# EAGLE library part MUX_FSUSB42MUX (library !GPLIB_ACTIVE)
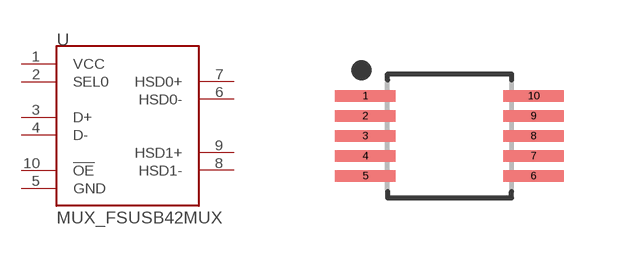
[diagram p120: symbol with the pads of FSUSB42MUX; footprint FSUSB42MUX]

Designator prefix U

## MUX_FSUSB42MUX  [FSUSB42MUX]
1  VCC  pwr
2  SEL0  in
3  D+
4  D-
5  GND  pwr
6  HSD0-
7  HSD0+
8  HSD1-
9  HSD1+
10  !OE  in

## Footprint FSUSB42MUX (pad centres in mm)
10-SOP, 0.50 mm pitch, 4.90 mm span, 3.00 X 3.00 X 1.00 mm body 10-pin SOP package with 0.50 mm pitch, 4.90 mm span with body size 3.00 X 3.00 X 1.00 mm
smd 1.506 x 0.284: 1 -2.106,1; 2 -2.106,0.5; 3 -2.106,0; 4 -2.106,-0.5; 5 -2.106,-1; 6 2.106,-1; 7 2.106,-0.5; 8 2.106,0; 9 2.106,0.5; 10 2.106,1